# EAGLE library part LIS2DH (library Accelerometer)
MEMS digital output motion sensor: ultra low-power high performance 3-axis “femto” accelerometer Datasheet <http://www.st.com/st-web-ui/static/active/en/resource/technical/document/datasheet/DM00042751.pdf>
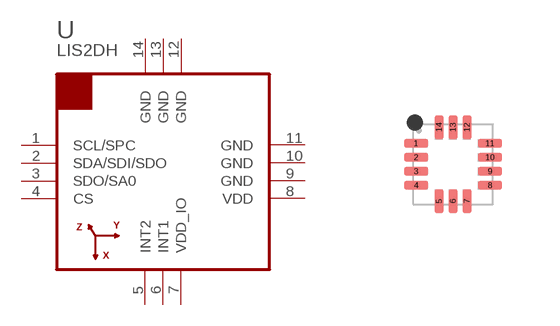
[diagram p2: symbol with the pads of LGA14; footprint LGA14]

Designator prefix U

## LIS2DH (MFPN: LIS2DH; PARTNO: 01-100545-00)  [LGA14]
1  SCL/SPC  in
2  SDA/SDI/SDO
3  SDO/SA0
4  CS  in
5  INT2
6  INT1
7  VDD_IO  pwr
8  VDD  pwr
9  GND  pwr
10  GND  pwr
11  GND  pwr
12  GND  pwr
13  GND  pwr
14  GND  pwr

## Footprint LGA14 (pad centres in mm)
LGA14 2x2mm Guidelines <http://www.st.com/st-web-ui/static/active/en/resource/technical/document/technical_note/CD00134799.pdf>
smd 0.6 x 0.22: 1 -0.925,0.525; 2 -0.925,0.175; 3 -0.925,-0.175; 4 -0.925,-0.525; 8 0.925,-0.525; 9 0.925,-0.175; 10 0.925,0.175; 11 0.925,0.525
smd 0.22 x 0.6: 5 -0.35,-0.925; 6 0,-0.925; 7 0.35,-0.925; 12 0.35,0.925; 13 0,0.925; 14 -0.35,0.925